# EAGLE library part PCA9617 (library bschulz)
PCA9617A - Level translating I2C Bus Repeater Characteristics: Vcc: 0.8V ~ 5.5V (VccA), 2.2V ~ 5.5V (VccB) IOut: 30mA IQ: 1.6mA Operating Temperature: -40°C to 85°C Digikey: 568-10211-1-ND (TSSOP8) <https://www.digikey.com/en/products/detail/nxp-usa-inc/PCA9617ADPJ/3991854?s=N4IgTCBcDaIKwDYAcBaAjABjGt6UDkARQOAIQBdAXyA>
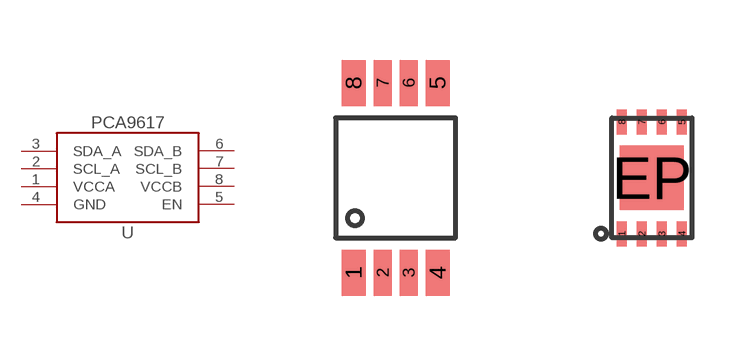
[diagram p128: symbol with the pads of TSSOP_8; footprints TSSOP_8, WSON-8_2X3]

Designator prefix U

## PCA9617 (DIGIKEY: 568-10211-1-ND; MF: NXP; MPN: PCA9617ADPJ)  [TSSOP_8]
1  VCCA  pwr
2  SCL_A  oc
3  SDA_A  oc
4  GND  pwr
5  EN  oc
6  SDA_B  oc
7  SCL_B  oc
8  VCCB  pwr

## PCA9617WSON (DIGIKEY: 568-10953-1-ND; MF: NXP; MPN: PCA9617ATPZ)  [WSON-8_2X3]
1  SDA_A  oc
2  GND  pwr
3  EN  oc
4  SDA_B  oc
5  SCL_B  oc
6  VCCB  pwr
7  VCCA  pwr
8  SCL_A  oc
EP  GND  pwr

## Footprint TSSOP_8 (pad centres in mm)
TSSOP8 (SOT505-1) Datasheet <https://www.nxp.com/docs/en/data-sheet/PCA9617A.pdf>
smd 0.6 x 1.15: 1 -1.05,-2.375; 4 1.05,-2.375; 5 1.05,2.375; 8 -1.05,2.375
smd 0.45 x 1.15: 2 -0.325,-2.375; 3 0.325,-2.375; 6 0.325,2.375; 7 -0.325,2.375

## Footprint WSON-8_2X3 (pad centres in mm)
WSON, 8 pos, EP, 2x3mm body, 0.5mm Pitch Datasheet <https://www.nxp.com/docs/en/data-sheet/PCA9617A.pdf>
smd 0.25 x 0.625: 1 -0.75,-1.4; 2 -0.25,-1.4; 3 0.25,-1.4; 4 0.75,-1.4; 5 0.75,1.4; 6 0.25,1.4; 7 -0.25,1.4; 8 -0.75,1.4
smd 1.6 x 1.6: EP 0,0